# EAGLE library part OPTOCOUPLER-CNY74-2H (library tidyeagle)
2-Channel Phototransistor Optocoupler Transistor Optocoupler Datasheet: Full <http://www.vishay.com/docs/83526/83526.pdf> Not Tested.
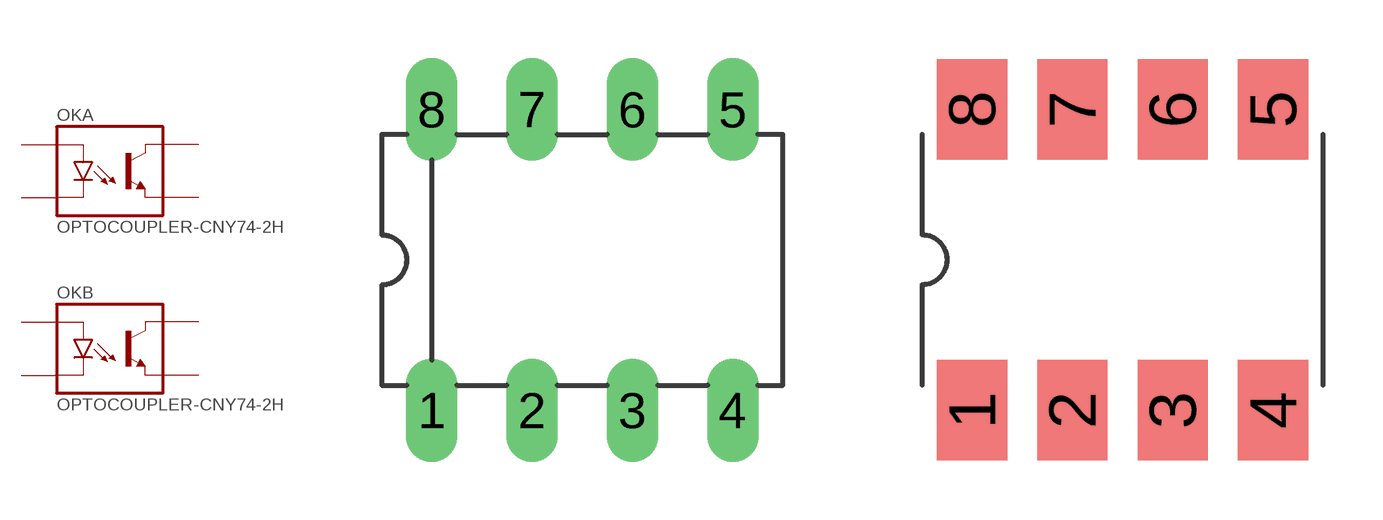
[diagram p8: symbol with the pads of DIL08-3; footprints DIL08-3, SMD8-3]

Designator prefix OK; gates A=OPTOCOUPLER-1-NPN B=OPTOCOUPLER-1-NPN

## OPTOCOUPLER-CNY74-2H-DIP8  [DIL08-3]
1  A:A1  pas
2  A:C1  pas
3  B:C1  pas
4  B:A1  pas
5  B:EMITTER1  pas
6  B:COLLECTOR1  pas
7  A:COLLECTOR1  pas
8  A:EMITTER1  pas

## OPTOCOUPLER-CNY74-2H-SMD8  [SMD8-3]
Pads as for DIL08-3

## Footprint DIL08-3 (pad centres in mm)
drill 0.8 long: 1 -3.81,-3.81; 2 -1.27,-3.81; 3 1.27,-3.81; 4 3.81,-3.81; 5 3.81,3.81; 6 1.27,3.81; 7 -1.27,3.81; 8 -3.81,3.81

## Footprint SMD8-3 (pad centres in mm)
SMD Mount DIP8 package. For those odd SMD components which are in every other way like the DIP equivalent, but have short, flat ended leads instead of long ones for TH mounting. Not Tested.
smd 1.778 x 2.54: 1 -3.81,-3.81; 2 -1.27,-3.81; 3 1.27,-3.81; 4 3.81,-3.81; 5 3.81,3.81; 6 1.27,3.81; 7 -1.27,3.81; 8 -3.81,3.81